# Altium schematic symbol library Antenna.SCHLIB: 130 symbols (part 2 of 4)
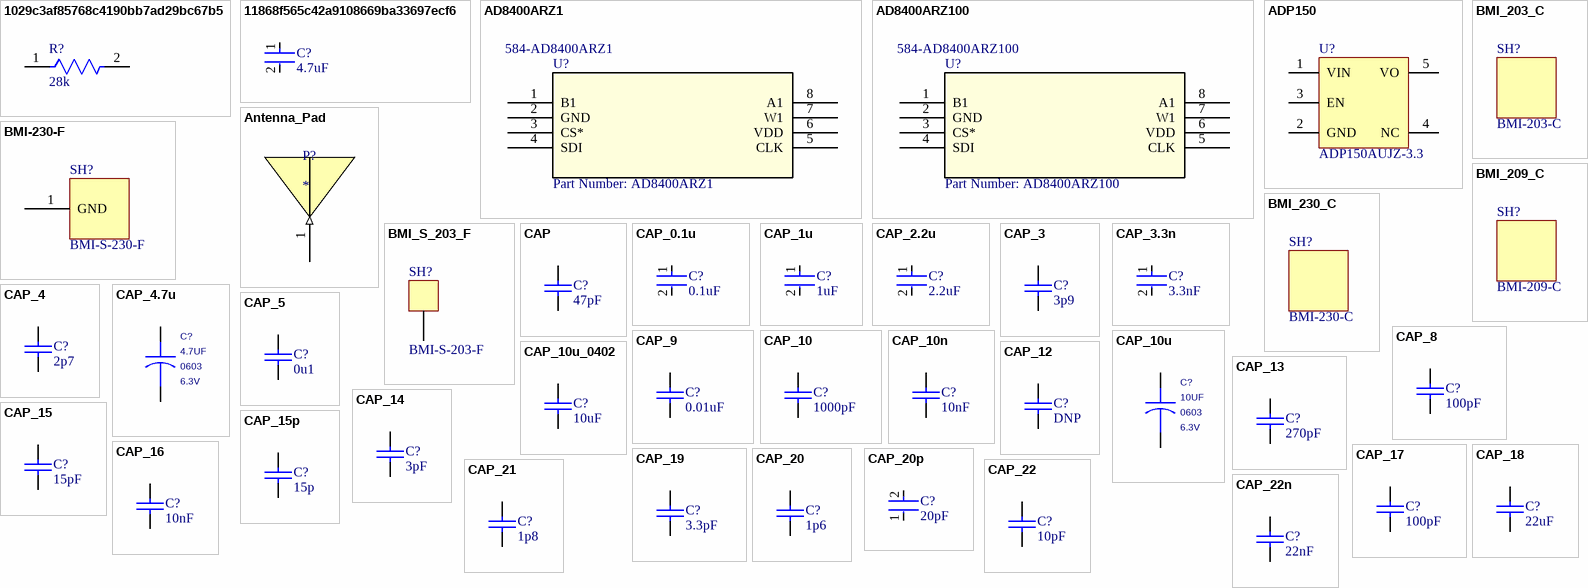
[diagram p4: symbols 1029c3af85768c4190bb7ad29bc67b5 to CAP_22n]

## CAP_20
designator C?, comment 1p6
Multilayer Ceramic Capacitors MLCC - SMD/SMT 0402 1.6pF 50Volts C0G +/-0.05pF; Manufacturer: Murata; Manufacturer Part Number: GJM1555C1H1R6WB01D; Voltage Rating: 50V; Supplier 1: Digi-Key; Supplier Part Number 1: 490-11200-1-ND; RoHS: Yes; Category: Ceramic Capacitors; Stock 1: 76276; Pricing 1: 1=0.30000, 10=0.20500, 100=0.11610, 500=0.08198, 1000=0.07173, 2500=0.06831, 5000=0.06319 (USD); Mount: Surface Mount; Case/Package: 0402; Case Code (Imperial): 0402; Case Code (Metric): 1005; Min Operating Temperature: -55°C; Max Operating Temperature: 125°C; Packaging: Tape and Reel; Capacitance: 1.6pF; Voltage Rating (DC): 50V; Package Quantity: 10000; Dielectric: C0G; Termination: SMD/SMT; Length: 1mm; Height: 0.5mm; Width: 0.5mm; Thickness: 0.022inch; Depth: 0.5mm; Radiation Hardening: No; ComponentLink1URL: http://components.arrow.com/part/dataview/0323_07284335?src-supplier=Arrow+Europe; ComponentLink1Description: http://components.arrow.com/part/dataview/0323_07284335?src-supplier=Arrow+Europe; ComponentLink2URL: http://www.mouser.com/ds/2/281/Murata%20GJM%20Series-1149669.pdf?src-supplier=Mouser; ComponentLink2Description: http://www.mouser.com/ds/2/281/Murata%20GJM%20Series-1149669.pdf?src-supplier=Mouser; ComponentLink3URL: http://components.arrow.com/part/dataview/46580659S481460N2606?src-supplier=Arrow; ComponentLink3Description: http://components.arrow.com/part/dataview/46580659S481460N2606?src-supplier=Arrow; ComponentLink4URL: http://search.murata.co.jp/Ceramy/image/img/A01X/G101/ENG/GJM1555C1H1R6WB01-01.pdf?src-supplier=Digi-Key; ComponentLink4Description: http://search.murata.co.jp/Ceramy/image/img/A01X/G101/ENG/GJM1555C1H1R6WB01-01.pdf?src-supplier=Digi-Key; ComponentLink5URL: http://search.murata.co.jp/Ceramy/image/img/PDF/ENG/GJM1555C1H1R6WB01.pdf?src-supplier=Avnet; ComponentLink5Description: http://search.murata.co.jp/Ceramy/image/img/PDF/ENG/GJM1555C1H1R6WB01.pdf?src-supplier=Avnet
footprint C0402
pins: 1, 2
2 alternate drawings of the same symbol

## CAP_20p
designator C?, comment 20pF
CAP CER 20PF 50V C0G/NP0 0402; Manufacturer Part Number: CBR04C200F5GAC; Manufacturer: KEMET; Temperature Coefficient: 30ppm/°C; Material: Ceramic; Tolerance: 0.01; Temperature Characteristic: C0G; Temperature Range Low: -55°C; Height: 0.55mm; Package: CBR04C; Ipc Land Pattern Name: CAPC10050X50; Capacitance: 20 pF; Value: 20 pF; Temperature: -55°C to +125°C; Octopart: https://octopart.com/cbr04c200f5gac-kemet-23843231; RoHS: TRUE; Device Class L1: Passive Components; Category: Cap; Temperature Range High: +125°C; ComponentLink2URL: https://content.kemet.com/datasheets/KEM_C1030_CBR_SMD.pdf; Device Class L3: Ceramic Capacitors; Lead Free: Yes; Device Class L2: Capacitors; Automotive: No; Digikey Description: CAP CER 20PF 50V C0G/NP0 0402; ComponentLink2Description: Datasheet; Voltage Rating: 50 V; Supplier 1: Digi-Key
footprint FP-CBR04C-MFG
footprint FP-CBR04C-IPC_C
footprint FP-CBR04C-IPC_B
footprint FP-CBR04C-IPC_A
footprint 0402_cap
pins: 1, 2

## CAP_21
designator C?, comment 1p8
CAP CER 1.8PF 50V C0G/NP0 0402; Manufacturer: Murata; Manufacturer Part Number: GJM1555C1H1R8CB01D; Dielectric: C0G; Supplier 1: Digi-Key; Supplier Part Number 1: 490-3089-1-ND; RoHS: Yes; Category: Ceramic Capacitors; Stock 1: 28321; Pricing 1: 1=0.12000, 10=0.08200, 100=0.03850, 500=0.02700, 1000=0.02236, 2500=0.02081, 5000=0.01904 (USD); Mount: Surface Mount; Case/Package: 0402; Case Code (Imperial): 0402; Case Code (Metric): 1005; Min Operating Temperature: -55°C; Max Operating Temperature: 125°C; Capacitance: 1.8pF; Package Quantity: 1; Packaging: Tape and Reel; Voltage Rating: 50V; Termination: SMD/SMT; Voltage: 50V; Voltage Rating (DC): 50V; Length: 1mm; Height: 0.5mm; Width: 0.02inch; Thickness: 0.022inch; Depth: 0.5mm; Radiation Hardening: No; Lead Free: Lead Free; ComponentLink1URL: https://datasheet.ciiva.com/133/product-133129.pdf?src-supplier=Digi-Key; ComponentLink1Description: https://datasheet.ciiva.com/133/product-133129.pdf?src-supplier=Digi-Key; ComponentLink2URL: https://datasheet.ciiva.com/133/partnumbering-e-01-133130.pdf?src-supplier=Digi-Key; ComponentLink2Description: https://datasheet.ciiva.com/133/partnumbering-e-01-133130.pdf?src-supplier=Digi-Key; ComponentLink3URL: https://datasheet.ciiva.com/133/partnumbering-e-01-133131.pdf?src-supplier=Digi-Key; ComponentLink3Description: https://datasheet.ciiva.com/133/partnumbering-e-01-133131.pdf?src-supplier=Digi-Key
footprint C0402
pins: 1, 2
2 alternate drawings of the same symbol

## CAP_22
designator C?, comment 10pF
Multilayer Ceramic Capacitors MLCC - SMD/SMT 0402 10pF 50volt C0G +/-2%; Manufacturer: Murata; Manufacturer Part Number: GJM1555C1H100GB01D; Tolerance: 2%; Voltage Rating: 50V; Supplier 1: Digi-Key; Supplier Part Number 1: 490-8077-1-ND; RoHS: Yes; Category: Ceramic Capacitors; Stock 1: 70062; Pricing 1: 1=0.30000, 10=0.20500, 100=0.10380, 500=0.07104, 1000=0.06285, 2500=0.06011, 5000=0.05465 (USD); Mount: Surface Mount; Case/Package: 0402; Case Code (Imperial): 0402; Case Code (Metric): 1005; Min Operating Temperature: -55°C; Max Operating Temperature: 125°C; Capacitance: 10pF; Dielectric: C0G; Package Quantity: 1; Packaging: Tape and Reel; Voltage Rating (DC): 50V; Termination: SMD/SMT; Length: 1mm; Height: 0.5mm; Width: 0.5mm; Thickness: 0.022inch; Depth: 0.5mm; Radiation Hardening: No; Lead Free: Lead Free; ComponentLink1URL: https://datasheet.ciiva.com/17453/product-17453462.pdf?src-supplier=Avnet+Europe; ComponentLink1Description: https://datasheet.ciiva.com/17453/product-17453462.pdf?src-supplier=Avnet+Europe; ComponentLink2URL: https://datasheet.ciiva.com/11607/product-11607355.pdf?src-supplier=Avnet; ComponentLink2Description: https://datasheet.ciiva.com/11607/product-11607355.pdf?src-supplier=Avnet
footprint C0402
footprint 0402_cap
pins: 1, 2
2 alternate drawings of the same symbol

## CAP_22n
designator C?, comment 22nF
Taiyo Yuden 0402 (1005M) 22nF Multilayer Ceramic Capacitor MLCC 16V dc ±10% SMD EMK105B7223KV-F; Dielectric: X7R; Supplier 1: Digi-Key; Supplier Part Number 1: 587-1224-1-ND; Manufacturer: Taiyo Yuden; Manufacturer Part Number: EMK105B7223KV-F; RoHS: Yes; Category: Ceramic Capacitors; Stock 1: 267137; Pricing 1: 1=0.10000, 10=0.02400, 100=0.01070, 500=0.00762, 1000=0.00599, 2500=0.00544, 5000=0.00501 (USD); Mount: Surface Mount; Case/Package: 0402; Number of Pins: 2; Case Code (Metric): 1005; Case Code (Imperial): 0402; Contact Plating: Tin; Min Operating Temperature: -55°C; Max Operating Temperature: 125°C; Termination: SMD/SMT; Capacitance: 22nF; Tolerance: 10%; Voltage Rating: 16V; Packaging: Tape and Reel; Package Quantity: 1; Voltage Rating (DC): 16V; Composition: Ceramic; Voltage: 16V; Length: 1mm; Height: 0.5mm; Thickness: 0.022inch; Depth: 0.5mm; Width: 0.02inch; Radiation Hardening: No; Halogen Free: Halogen Free; REACH SVHC: Unknown; ComponentLink1URL: https://datasheet.ciiva.com/130/emk105b7223kv-f-ss-130613.pdf?src-supplier=Digi-Key; ComponentLink1Description: https://datasheet.ciiva.com/130/emk105b7223kv-f-ss-130613.pdf?src-supplier=Digi-Key; ComponentLink2URL: https://datasheet.ciiva.com/11463/emk105b7223kv-f-ss-11463878.pdf?src-supplier=Avnet; ComponentLink2Description: https://datasheet.ciiva.com/11463/emk105b7223kv-f-ss-11463878.pdf?src-supplier=Avnet; ComponentLink3URL: https://datasheet.ciiva.com/15920/228emk105b7223kv-f-15920438.pdf?src-supplier=Onlinecomponents.com; ComponentLink3Description: https://datasheet.ciiva.com/15920/228emk105b7223kv-f-15920438.pdf?src-supplier=Onlinecomponents.com; ComponentLink4URL: https://datasheet.ciiva.com/30123/216emk105b7223kv-f-30123805.pdf?src-supplier=Onlinecomponents.com; ComponentLink4Description: https://datasheet.ciiva.com/30123/216emk105b7223kv-f-30123805.pdf?src-supplier=Onlinecomponents.com; ComponentLink5URL: https://datasheet.ciiva.com/5423/mlcc-all-e-541559-5423242.pdf?src-supplier=Mouser; ComponentLink5Description: https://datasheet.ciiva.com/5423/mlcc-all-e-541559-5423242.pdf?src-supplier=Mouser
footprint C0402
pins: 1, 2
2 alternate drawings of the same symbol

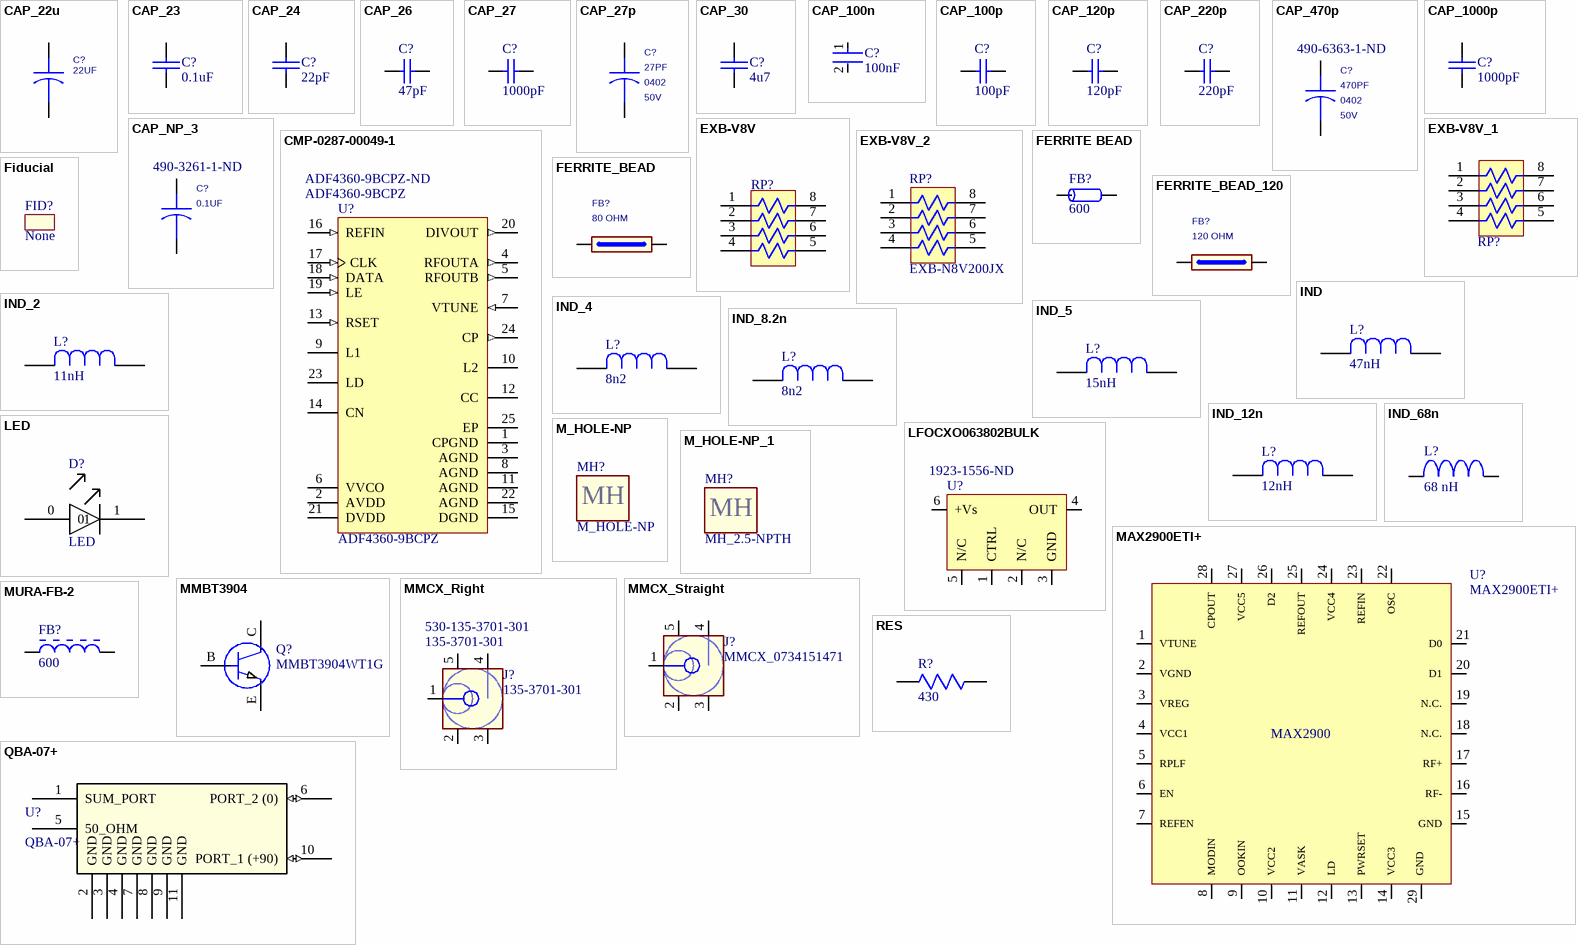
[diagram p1: symbols CAP_22u to RES]

## CAP_22u
designator C?, comment 22UF
MURATA         GRM21BR60J226ME39L            MLCC CAPACITOR, 22UF, 6.3V, X5R, 20%, 0805, FULL REEL; Material: Ceramic; ComponentLink1URL: https://datasheet.ciiva.com/18102/getdatasheetpartid-85307-18102905.pdf?src-supplier=Verical; ComponentLink1Description: https://datasheet.ciiva.com/18102/getdatasheetpartid-85307-18102905.pdf?src-supplier=Verical; ComponentLink2URL: https://datasheet.ciiva.com/129/grm155r71c104ka88-01-129739.pdf?src-supplier=Digi-Key; ComponentLink2Description: https://datasheet.ciiva.com/129/grm155r71c104ka88-01-129739.pdf?src-supplier=Digi-Key; ComponentLink3URL: https://datasheet.ciiva.com/129/grm155r71c104ka88-01-129740.pdf?src-supplier=Digi-Key; ComponentLink3Description: https://datasheet.ciiva.com/129/grm155r71c104ka88-01-129740.pdf?src-supplier=Digi-Key; ComponentLink4URL: https://datasheet.ciiva.com/29199/454098-da-01-en-vs-kondensator-0402-29199799.pdf?src-supplier=Conrad; ComponentLink4Description: https://datasheet.ciiva.com/29199/454098-da-01-en-vs-kondensator-0402-29199799.pdf?src-supplier=Conrad; ComponentLink5URL: https://datasheet.ciiva.com/28534/4360-28534133.pdf?src-supplier=Element14; ComponentLink5Description: https://datasheet.ciiva.com/28534/4360-28534133.pdf?src-supplier=Element14; ComponentLink6URL: https://datasheet.ciiva.com/14103/grmseries-highdielectrictype-eng-14103750.pdf?src-supplier=Distrelec; ComponentLink6Description: https://datasheet.ciiva.com/14103/grmseries-highdielectrictype-eng-14103750.pdf?src-supplier=Distrelec; ComponentLink7URL: https://datasheet.ciiva.com/16199/product-16199000.pdf?src-supplier=Future+Electronics; ComponentLink7Description: https://datasheet.ciiva.com/16199/product-16199000.pdf?src-supplier=Future+Electronics; ComponentLink8URL: https://datasheet.ciiva.com/14116/grmseries-highdielectrictype-eng-14116878.pdf?src-supplier=Distrelec; ComponentLink8Description: https://datasheet.ciiva.com/14116/grmseries-highdielectrictype-eng-14116878.pdf?src-supplier=Distrelec; ComponentLink9URL: https://datasheet.ciiva.com/7937/4360-7937615.pdf?src-supplier=Element14; ComponentLink9Description: https://datasheet.ciiva.com/7937/4360-7937615.pdf?src-supplier=Element14; ComponentLink10URL: https://datasheet.ciiva.com/28534/4360-28534127.pdf?src-supplier=Element14; ComponentLink10Description: https://datasheet.ciiva.com/28534/4360-28534127.pdf?src-supplier=Element14; ComponentLink11URL: https://datasheet.ciiva.com/16543/product-16543520.pdf?src-supplier=Avnet+Asia; ComponentLink11Description: https://datasheet.ciiva.com/16543/product-16543520.pdf?src-supplier=Avnet+Asia; ComponentLink12URL: https://datasheet.ciiva.com/28685/415298-28685393.pdf?src-supplier=Element14; ComponentLink12Description: https://datasheet.ciiva.com/28685/415298-28685393.pdf?src-supplier=Element14; ComponentLink13URL: https://datasheet.ciiva.com/3777/162grm21br60j226me3923-3777075.pdf?src-supplier=Arrow; ComponentLink13Description: https://datasheet.ciiva.com/3777/162grm21br60j226me3923-3777075.pdf?src-supplier=Arrow; ComponentLink14URL: https://datasheet.ciiva.com/34302/1858877-34302872.pdf?src-supplier=Jameco; ComponentLink14Description: https://datasheet.ciiva.com/34302/1858877-34302872.pdf?src-supplier=Jameco; ComponentLink15URL: https://datasheet.ciiva.com/29199/454561-da-01-en-vs-kondensator-0805-29199600.pdf?src-supplier=Conrad; ComponentLink15Description: https://datasheet.ciiva.com/29199/454561-da-01-en-vs-kondensator-0805-29199600.pdf?src-supplier=Conrad; ComponentLink16URL: https://datasheet.ciiva.com/29202/450907-da-01-de-vs-chip-kond-0805-22-0-uf-20pr-6-3v-x5r-29202711.pdf?src-supplier=Conrad; ComponentLink16Description: https://datasheet.ciiva.com/29202/450907-da-01-de-vs-chip-kond-0805-22-0-uf-20pr-6-3v-x5r-29202711.pdf?src-supplier=Conrad; ComponentLink17URL: https://datasheet.ciiva.com/137/partnumbering-e-01-137971.pdf?src-supplier=Digi-Key; ComponentLink17Description: https://datasheet.ciiva.com/137/partnumbering-e-01-137971.pdf?src-supplier=Digi-Key; ComponentLink18URL: https://datasheet.ciiva.com/137/partnumbering-e-01-137972.pdf?src-supplier=Digi-Key; ComponentLink18Description: https://datasheet.ciiva.com/137/partnumbering-e-01-137972.pdf?src-supplier=Digi-Key; ComponentLink19URL: https://datasheet.ciiva.com/137/partnumbering-e-01-137973.pdf?src-supplier=Digi-Key; ComponentLink19Description: https://datasheet.ciiva.com/137/partnumbering-e-01-137973.pdf?src-supplier=Digi-Key; ComponentLink20URL: https://datasheet.ciiva.com/2989/product-2989692.pdf?src-supplier=Avnet; ComponentLink20Description: https://datasheet.ciiva.com/2989/product-2989692.pdf?src-supplier=Avnet; ComponentLink21URL: https://datasheet.ciiva.com/7719/1747467-7719085.pdf?src-supplier=Element14; ComponentLink21Description: https://datasheet.ciiva.com/7719/1747467-7719085.pdf?src-supplier=Element14; ComponentLink22URL: https://datasheet.ciiva.com/7719/1747467-7719086.pdf?src-supplier=Element14; ComponentLink22Description: https://datasheet.ciiva.com/7719/1747467-7719086.pdf?src-supplier=Element14; ComponentLink23URL: https://datasheet.ciiva.com/14116/grmseries-highdielectrictype-eng-14116430.pdf?src-supplier=Distrelec; ComponentLink23Description: https://datasheet.ciiva.com/14116/grmseries-highdielectrictype-eng-14116430.pdf?src-supplier=Distrelec; Supplier 1: Digi-Key; Supplier Part Number 1: 490-1719-1-ND; Manufacturer: Murata; Manufacturer Part Number: GRM21BR60J226ME39L; RoHS: Yes; Category: Ceramic Capacitors; Stock 1: 10315049; Pricing 1: 1=0.50000, 10=0.34600, 100=0.20790, 500=0.15590, 1000=0.13165 (USD); Mount: Surface Mount; Case/Package: 0805; Case Code (Metric): 2012; Case Code (Imperial): 0805; Min Operating Temperature: -55°C; Max Operating Temperature: 85°C; Capacitance: 22uF; Tolerance: 20%; Dielectric: X5R; Packaging: Tape and Reel; Voltage Rating: 6.3V; Package Quantity: 1; Voltage Rating (DC): 6.3V; Termination: SMD/SMT; Voltage: 6.3V; Length: 2mm; Height: 1.25mm; Width: 0.049inch; Thickness: 0.053inch; Depth: 1.25mm; Radiation Hardening: No; REACH SVHC: No SVHC; Lead Free: Lead Free
footprint C0805
footprint C0402
footprint C0402
pins: 1, 2

## CAP_23
designator C?, comment 0.1uF
0402 0.1 uF 16 V ±10 % Tolerance X7R Surface Mount Multilayer Ceramic Capacitor; Manufacturer: Murata; Manufacturer Part Number: GCM155R71C104KA55D; Capacitance: 100nF; Tolerance: 10%; Voltage Rating: 16V; Supplier 1: Digi-Key; Supplier Part Number 1: 490-4759-1-ND; RoHS: Yes; Category: Ceramic Capacitors; Stock 1: 23673142; Pricing 1: 1=0.10000, 10=0.05900, 100=0.02630, 500=0.01878, 1000=0.01476, 2500=0.01341, 5000=0.01234 (USD); Mount: Surface Mount; Case/Package: 0402; Case Code (Metric): 1005; Case Code (Imperial): 0402; Min Operating Temperature: -55°C; Max Operating Temperature: 125°C; Dielectric: X7R; Package Quantity: 1; Packaging: Tape and Reel; Voltage Rating (DC): 16V; Termination: SMD/SMT; Voltage: 16V; Length: 1mm; Height: 0.5mm; Width: 0.02inch; Thickness: 0.022inch; Depth: 0.5mm; Ratings: AEC-Q200; Radiation Hardening: No; REACH SVHC: No SVHC; Lead Free: Lead Free; ComponentLink1URL: https://datasheet.ciiva.com/11786/0900766b80ef92d0-11786380.pdf?src-supplier=RSComponents; ComponentLink1Description: https://datasheet.ciiva.com/11786/0900766b80ef92d0-11786380.pdf?src-supplier=RSComponents; ComponentLink2URL: https://datasheet.ciiva.com/18183/getdatasheetpartid-220774-18183517.pdf?src-supplier=Verical; ComponentLink2Description: https://datasheet.ciiva.com/18183/getdatasheetpartid-220774-18183517.pdf?src-supplier=Verical; ComponentLink3URL: https://datasheet.ciiva.com/2989/product-2989234.pdf?src-supplier=Avnet; ComponentLink3Description: https://datasheet.ciiva.com/2989/product-2989234.pdf?src-supplier=Avnet; ComponentLink4URL: https://datasheet.ciiva.com/164/product-164315.pdf?src-supplier=Digi-Key; ComponentLink4Description: https://datasheet.ciiva.com/164/product-164315.pdf?src-supplier=Digi-Key; ComponentLink5URL: https://datasheet.ciiva.com/164/product-164316.pdf?src-supplier=Digi-Key; ComponentLink5Description: https://datasheet.ciiva.com/164/product-164316.pdf?src-supplier=Digi-Key; ComponentLink6URL: https://datasheet.ciiva.com/11463/product-11463804.pdf?src-supplier=Avnet; ComponentLink6Description: https://datasheet.ciiva.com/11463/product-11463804.pdf?src-supplier=Avnet
footprint C0402
pins: 1, 2
2 alternate drawings of the same symbol

## CAP_24
designator C?, comment 22pF
Cap Ceramic 22pF 50V C0G 2% SMD 0402 125°C Paper T/R; Manufacturer: Murata; Manufacturer Part Number: GJM1555C1H220GB01D; Supplier 1: Digi-Key; Supplier Part Number 1: 490-16381-1-ND; Category: Ceramic Capacitors; Stock 1: 35538; Pricing 1: 1=0.30000, 10=0.20500, 100=0.10380, 500=0.07104, 1000=0.06285, 2500=0.06011, 5000=0.05465 (USD); Capacitance: 22pF; Tolerance: 2%; Dielectric: C0G; Voltage Rating (DC): 50V; Length: 1mm; Thickness: 500um; Width: 500um; ComponentLink1URL: https://search.murata.co.jp/Ceramy/image/img/A01X/G101/ENG/GJM1555C1H220GB01-01.pdf?src-supplier=Digi-Key; ComponentLink1Description: https://search.murata.co.jp/Ceramy/image/img/A01X/G101/ENG/GJM1555C1H220GB01-01.pdf?src-supplier=Digi-Key; ComponentLink2URL: http://search.murata.co.jp/Ceramy/image/img/A01X/G101/ENG/GJM1555C1H220GB01-01.pdf?src-supplier=Digi-Key; ComponentLink2Description: http://search.murata.co.jp/Ceramy/image/img/A01X/G101/ENG/GJM1555C1H220GB01-01.pdf?src-supplier=Digi-Key; ComponentLink3URL: http://datasheet.octopart.com/GJM1555C1H220GB01D-Murata-datasheet-138724610.pdf?src-supplier=Ciiva+Crawler; ComponentLink3Description: http://datasheet.octopart.com/GJM1555C1H220GB01D-Murata-datasheet-138724610.pdf?src-supplier=Ciiva+Crawler; ComponentLink4URL: http://datasheet.octopart.com/GJM1555C1H220GB01D-Murata-datasheet-8819587.pdf; ComponentLink4Description: http://datasheet.octopart.com/GJM1555C1H220GB01D-Murata-datasheet-8819587.pdf; ComponentLink5URL: http://datasheet.octopart.com/GJM1555C1H220GB01D-Murata-datasheet-10025737.pdf; ComponentLink5Description: http://datasheet.octopart.com/GJM1555C1H220GB01D-Murata-datasheet-10025737.pdf; ComponentLink6URL: http://datasheet.octopart.com/GJM1555C1H220GB01D-Murata-datasheet-11978611.pdf; ComponentLink6Description: http://datasheet.octopart.com/GJM1555C1H220GB01D-Murata-datasheet-11978611.pdf; ComponentLink7URL: http://datasheet.octopart.com/GJM1555C1H220GB01D-Murata-datasheet-12510076.pdf; ComponentLink7Description: http://datasheet.octopart.com/GJM1555C1H220GB01D-Murata-datasheet-12510076.pdf; ComponentLink8URL: http://datasheet.octopart.com/GJM1555C1H220GB01D-Murata-datasheet-12515295.pdf; ComponentLink8Description: http://datasheet.octopart.com/GJM1555C1H220GB01D-Murata-datasheet-12515295.pdf
footprint C0402
pins: 1, 2
2 alternate drawings of the same symbol

## CAP_26
designator C?, comment 47pF
Manufacturer Part Number: GRM1555C1H470JA01D; Manufacturer: Murata; Supplier 1: Digi-Key; Supplier Part Number 1: 490-5942-1-ND
footprint CAPC1005X55X25LL05T10 (Chip Capacitor, 2-Leads, Body 1.00x0.50mm, IPC High Density)
footprint CAPC1005X55X25NL05T10 (Chip Capacitor, 2-Leads, Body 1.00x0.50mm, IPC Medium Density)
footprint CAPC1005X55X25ML05T10 (Chip Capacitor, 2-Leads, Body 1.00x0.50mm, IPC Low Density)
footprint 0402_cap
pins: 1, 2
1 alternate drawing of the same symbol

## CAP_27
designator C?, comment 1000pF
Part Number: GRM1555C1H102JA01D; Manufacturer: Murata; Supplier 1: Digi-Key; Supplier Part Number 1: 490-3244-6-ND
footprint CAPC1005X55X25LL05T10 (Chip Capacitor, 2-Leads, Body 1.00x0.50mm, IPC High Density)
footprint CAPC1005X55X25NL05T10 (Chip Capacitor, 2-Leads, Body 1.00x0.50mm, IPC Medium Density)
footprint CAPC1005X55X25ML05T10 (Chip Capacitor, 2-Leads, Body 1.00x0.50mm, IPC Low Density)
footprint Murata GRM1555C1H102JA01D (Footprint not found)
footprint 0402_cap
pins: 1, 2
1 alternate drawing of the same symbol

## CAP_27p
designator C?, comment 27PF  Attr: 50V  Package: 0402
Manufacturer Part Number: CL05C270JB5NNNC; Mfg: Samsung; Supplier 1: Digi-Key; Supplier Part Number 1: 1276-1153-1-ND
footprint C0402
footprint C0402
pins: 1, 2

## CAP_30
designator C?, comment 4u7
Cap Ceramic 4.7uF 10V X5R 10% Pad SMD 0603 85°C T/R; Manufacturer: Yageo; Manufacturer Part Number: CC0603KRX5R6BB475; Supplier 1: Future Electronics; Supplier Part Number 1: CC0603KRX5R6BB475-CUTT; RoHS: Yes; Category: Ceramic Capacitors; Stock 1: 2889148; Pricing 1: 1=0.21500, 50=0.10000, 100=0.08750, 500=0.06380, 1500=0.05150 (USD); Mount: Surface Mount; Case/Package: 0603; Case Code (Imperial): 0603; Case Code (Metric): 1608; Min Operating Temperature: -55°C; Max Operating Temperature: 85°C; Dielectric: X5R; Capacitance: 4.7uF; Tolerance: 10%; Voltage Rating: 10V; Voltage Rating (DC): 10V; Packaging: Tape and Reel; Package Quantity: 1; Termination: SMD/SMT; Composition: Ceramic; Length: 1.6mm; Height: 0.8mm; Width: 0.8mm; Thickness: 0.035inch; Depth: 0.8mm; Radiation Hardening: No; REACH SVHC: Unknown; Lead Free: Lead Free; Halogen Free: Halogen Free; ComponentLink1URL: https://datasheet.ciiva.com/179/mlccorderingcode-179704.pdf?src-supplier=Digi-Key; ComponentLink1Description: https://datasheet.ciiva.com/179/mlccorderingcode-179704.pdf?src-supplier=Digi-Key; ComponentLink2URL: https://datasheet.ciiva.com/179/mlccorderingcode-179706.pdf?src-supplier=Digi-Key; ComponentLink2Description: https://datasheet.ciiva.com/179/mlccorderingcode-179706.pdf?src-supplier=Digi-Key; ComponentLink3URL: https://datasheet.ciiva.com/11586/upy-gphc-x5r-4v-to-50v-12-11586314.pdf?src-supplier=Avnet; ComponentLink3Description: https://datasheet.ciiva.com/11586/upy-gphc-x5r-4v-to-50v-12-11586314.pdf?src-supplier=Avnet; ComponentLink4URL: https://datasheet.ciiva.com/8033/1525783-8033798.pdf?src-supplier=Element14; ComponentLink4Description: https://datasheet.ciiva.com/8033/1525783-8033798.pdf?src-supplier=Element14; ComponentLink5URL: https://datasheet.ciiva.com/179/mlccorderingcode-179705.pdf?src-supplier=Digi-Key; ComponentLink5Description: https://datasheet.ciiva.com/179/mlccorderingcode-179705.pdf?src-supplier=Digi-Key; ComponentLink6URL: https://datasheet.ciiva.com/8033/1525783-8033802.pdf?src-supplier=Element14; ComponentLink6Description: https://datasheet.ciiva.com/8033/1525783-8033802.pdf?src-supplier=Element14; ComponentLink7URL: https://datasheet.ciiva.com/16623/upy-gphc-x5r-4v-to-50v-12-16623983.pdf?src-supplier=Avnet+Europe; ComponentLink7Description: https://datasheet.ciiva.com/16623/upy-gphc-x5r-4v-to-50v-12-16623983.pdf?src-supplier=Avnet+Europe
footprint C0603
pins: 1, 2
2 alternate drawings of the same symbol

## CAP_100n
designator C?, comment 100nF
CAP CER 0.1UF 10V X5R 0402; Manufacturer: Kemet; Manufacturer Part Number: C0402C104K8PACTU; Material: Ceramic; Capacitance: 0.10 μF; Temperature Coefficient: 15%; Tolerance: 0.1; Value: 0.10 μF; Package: C0402-BB; Temperature: -55°C to +125°C; ComponentLink2Description: Datasheet; Temperature Characteristic: X5R; Device Class L1: Passive Components; Height: 0.55mm; Lead Free: Yes; ComponentLink2URL: https://content.kemet.com/datasheets/KEM_C1002_X7R_SMD.pdf; Device Class L2: Capacitors; Temperature Range Low: -55°C; Temperature Range High: +125°C; RoHS: TRUE; Octopart: https://octopart.com/c0402c104k8pactu-kemet-140039; Automotive: No; Mouser Description: Capacitor 100 nF 10 VDC 0402; Category: Cap; Voltage Rating: 10 V; Digikey Description: CAP CER 0.1UF 10V X5R 0402; Ipc Land Pattern Name: CAPC10050X50; Device Class L3: Ceramic Capacitors; Supplier 1: Digi-Key
footprint FP-C0402-BB-MFG
footprint FP-C0402-BB-IPC_C
footprint FP-C0402-BB-IPC_B
footprint FP-C0402-BB-IPC_A
footprint 0402_cap
pins: 1, 2

## CAP_100p
designator C?, comment 100pF
Manufacturer Part Number: C1005C0G1H101J050BA; Supplier 1: Digi-Key; Supplier Part Number 1: 445-1247-1-ND
footprint CAPC1005X55X25NL05T10 (Chip Capacitor, 2-Leads, Body 1.00x0.50mm, IPC Medium Density)
footprint CAPC1005X55X25ML05T10 (Chip Capacitor, 2-Leads, Body 1.00x0.50mm, IPC Low Density)
footprint CAPC1005X55X25LL05T10 (Chip Capacitor, 2-Leads, Body 1.00x0.50mm, IPC High Density)
footprint 0402_RES
footprint 0402_cap
pins: 1, 2
1 alternate drawing of the same symbol

## CAP_120p
designator C?, comment 120pF
Manufacturer Part Number: 04025A121JAT2A; Supplier 1: Digi-Key; Supplier Part Number 1: 478-1083-1-ND
footprint CAPC0603X33X15ML03T05 (Chip Capacitor, 2-Leads, Body 0.60x0.30mm, IPC Low Density)
footprint CAPC0603X33X15LL03T05 (Chip Capacitor, 2-Leads, Body 0.60x0.30mm, IPC High Density)
footprint CAPC0603X33X15NL03T05 (Chip Capacitor, 2-Leads, Body 0.60x0.30mm, IPC Medium Density)
footprint GRM033R71E821KA01D
footprint 0402_cap
pins: 1, 2
1 alternate drawing of the same symbol

## CAP_220p
designator C?, comment 220pF
Manufacturer Part Number: GCM1555C1H221JA16D; Supplier 1: Digi-Key; Supplier Part Number 1: 490-4927-1-ND
footprint CAPC1608X90X35NL10T15 (Chip Capacitor, 2-Leads, Body 1.60x0.80mm, IPC Medium Density)
footprint CAPC1608X90X35LL10T15 (Chip Capacitor, 2-Leads, Body 1.60x0.80mm, IPC High Density)
footprint CAPC1608X90X35ML10T15 (Chip Capacitor, 2-Leads, Body 1.60x0.80mm, IPC Low Density)
footprint GRM1885C1H202JA01D
footprint 0402_RES
pins: 1, 2
1 alternate drawing of the same symbol

## CAP_470p
designator C?, comment 470PF  Attr: 50V  Package: 0402  Supplier Part Number 1: 490-6363-1-ND
Manufacturer Part Number: GRM155R71H471JA01J; Mfg: Murata; Supplier 1: Digi-Key
footprint C0402
footprint C0402
pins: 1, 2

## CAP_1000p
designator C?, comment 1000pF
CAP CER 1000PF 50V NP0 0402; Manufacturer Part Number: UMK105CG102JVHF; ComponentLink1URL: http://www.mouser.com/ds/2/396/mlcc11_hq_e-541564.pdf?src-supplier=Mouser; ComponentLink1Description: http://www.mouser.com/ds/2/396/mlcc11_hq_e-541564.pdf?src-supplier=Mouser; ComponentLink2URL: http://www.yuden.co.jp/ut/product/category/capacitor/putpdf/UMK105CG102JVHF_SS.pdf?src-supplier=Avnet; ComponentLink2Description: http://www.yuden.co.jp/ut/product/category/capacitor/putpdf/UMK105CG102JVHF_SS.pdf?src-supplier=Avnet; ComponentLink3URL: http://ds.yuden.co.jp/TYCOMPAS/ut/detail.do?productNo=UMK105CG102JVHF&fileName=UMK105CG102JVHF_SS&mode=specSheetDownload&src-supplier=Digi-Key; ComponentLink3Description: http://ds.yuden.co.jp/TYCOMPAS/ut/detail.do?productNo=UMK105CG102JVHF&fileName=UMK105CG102JVHF_SS&mode=specSheetDownload&src-supplier=Digi-Key; Supplier 1: Digi-Key; Supplier Part Number 1: 587-3737-1-ND
footprint C0402
footprint 0402_CAP
pins: 1, 2
2 alternate drawings of the same symbol

## CAP_NP_3
designator C?, comment 0.1UF  Supplier Part Number 1: 490-3261-1-ND
CAP,CER,MONO,0.1UF,10%,16V,0402; Supplier 1: Digi-Key
footprint C0402
footprint C0402
pins: 1, 2

## CMP-0287-00049-1
designator U?, comment ADF4360-9BCPZ  Supplier Part Number 1: ADF4360-9BCPZ-ND
Clock Generator PLL with Integrated VCO, CP-24-2, Pb-Free, 490 Tray; Max REFin (MHz): 250MHz; Max RF Input (MHz): 400MHz; Frequency Range: 1.1-200 MHz; Supply Current: 30mA; Norm Phase Noise (dBc/Hz): -216dBc; Single/Dual: Single; PackageReference: CP-24-2; ComponentLink1Description: Manufacturer URL; ComponentLink1URL: www.analog.com; ComponentLink3URL: http://www.analog.com/static/imported-files/packages/588305704543880784658541CP_24_2.pdf; PackageVersion: Jan-2005; ComponentLink2Description: Datasheet; Code_JEDEC: MO-220-VGGD-2; ComponentLink2URL: http://www.analog.com/static/imported-files/data_sheets/ADF4360-9.pdf; ComponentLink3Description: Package Specification; PackageDescription: 24-Lead Lead Frame Chip Scale Package [LFCSP_VQ]; DatasheetVersion: Rev. B; Manufacturer Part Number: ADF4360-9BCPZ; Supplier 1: Digi-Key
footprint ADI-CP-24-2_L (QFN, 24-Leads, Body 4x4mm, Pitch 0.5mm, Thermal Pad 2.3x2.3mm, IPC High Density)
footprint ADI-CP-24-2_M (QFN, 24-Leads, Body 4x4mm, Pitch 0.5mm, Thermal Pad 2.3x2.3mm, IPC Low Density)
footprint ADI-CP-24-2_N (QFN, 24-Leads, Body 4x4mm, Pitch 0.5mm, Thermal Pad 2.3x2.3mm, IPC Medium Density)
footprint ADI-CP-24-2_N (QFN, 24-Leads, Body 4x4mm, Pitch 0.5mm, Thermal Pad 2.3x2.3mm, IPC Medium Density)
pins: 1 CPGND (power) "Charge Pump Ground. This is the ground return path for the charge pump.", 2 AVDD (power) "Analog Power Supply. This ranges from 3.0 V to 3.6 V. Decoupling capacitors to the analog ground plane should be placed as close as possible to this pin. [see datasheet]", 3 AGND (power) "Analog Ground. This is the ground return path of the prescaler and VCO.", 4 RFOUTA (out) "VCO Output. The output level is programmable from 0 dBm to -9 dBm. See the Output Matching section for a description of the various output stages.", 5 RFOUTB (out) "VCO Complementary Output. The output level is programmable from 0 dBm to -9 dBm. See the Output Matching section for a description of the various output stages.", 6 VVCO (power) "Power Supply for the VCO. This ranges from 3.0 V to 3.6 V. Decoupling capacitors to the analog ground plane should be placed as close as possible to this pin. [see datasheet]", 7 VTUNE (in) "Control Input to the VCO. This voltage determines the output frequency and is derived from filtering the CP output voltage.", 8 AGND (power) "Analog Ground. This is the ground return path of the prescaler and VCO.", 9 L1 "An external inductor to AGND should be connected to this pin to set the ADF4360-9 output frequency. L1 and L2 need to be the same value. A 470  ohm resistor should be added in parallel to AGND", 10 L2 "An external inductor to AGND should be connected to this pin to set the ADF4360-9 output frequency. L1 and L2 need to be the same value. A 470  ohm resistor should be added in parallel to AGND.", 11 AGND (power) "Analog Ground. This is the ground return path of the prescaler and VCO.", 12 CC "Internal Compensation Node. This pin must be decoupled to ground with a 10 nF capacitor.", 13 RSET (in) "Connecting a resistor between this pin and CPGND sets the maximum charge pump output current for the synthesizer. The nominal voltage potential at the RSET pin is 0.6 V. [see datasheet]", 14 CN "Internal Compensation Node. This pin must be decoupled to VVCO with a 10 uF capacitor.", 15 DGND (power) "Digital Ground.", 16 REFIN (in) "Reference Input. This is a CMOS input with a nominal threshold of VDD/2 and a dc equivalent input resistance of 100 k ohm (see Figure 16). [see datasheet]", 17 CLK (in) "Serial Clock Input. This serial clock is used to clock in the serial data to the registers. The data is latched into the 24-bit shift register on the CLK rising edge. [see datasheet]", 18 DATA (in) "Serial Data Input. The serial data is loaded MSB first with the two LSBs being the control bits. This input is a high impedance CMOS input.", 19 LE (in) "Load Enable, CMOS Input. When LE goes high, the data stored in the shift registers is loaded into one of the four latches, and the relevant latch is selected using the control bits.", 20 DIVOUT (out) "This output allows the user to select VCO frequency divided by A or VCO frequency divided by 2A. [see datasheet]", 21 DVDD (power) "Digital Power Supply. This ranges from 3.0 V to 3.6 V. Decoupling capacitors to the digital ground plane should be placed as close as possible to this pin. [see datasheet]", 22 AGND (power) "Analog Ground. This is the ground return path of the prescaler and VCO.", 23 LD "Lock Detect. The output on this pin is logic high to indicate that the part is in lock. Logic low indicates loss of lock.", 24 CP (out) "Charge Pump Output. When enabled, this provides +/-ICP to the external loop filter, which in turn drives the internal VCO.", 25 EP (power) "Exposed Pad. The exposed pad must be connected to AGND."

## EXB-V8V
designator RP?, comment EXB-N8V  (value not drawn)
RES ARRAY 4 RES 20 OHM 0804; Manufacturer Part Number: EXB-N8V200JX; Supplier 1: Digi-Key; Supplier Part Number 1: Y10200TR-ND
footprint EXB-N8V
pins: 1 R1A, 2 R2A, 3 R3A, 4 R4A, 5 R4B, 6 R3B, 7 R2B, 8 R1B
2 alternate drawings of the same symbol

## EXB-V8V_1
designator RP?, comment EXB-N8V  (value not drawn)
RES ARRAY 4 RES 20 OHM 0804; Supplier 1: Digi-Key; Supplier Part Number 1: Y10200TR-ND
footprint EXB-N8V
pins: 1 R1A, 2 R2A, 3 R3A, 4 R4A, 5 R4B, 6 R3B, 7 R2B, 8 R1B
2 alternate drawings of the same symbol

## EXB-V8V_2
designator RP?, comment value EXB-N8V200JX  (hidden comment: EXB-N8V)
Res Thick Film Array 20 Ohm 5% 200ppm/C ISOL Molded 8-Pin 0804(4 X 0402) Concave SMD Punched Carrier T/R; Manufacturer: Panasonic; Number of Contacts: 8; Voltage Rating (DC): 100V; Voltage Rating: 50V; Resistance: 20R; Circuit Type: Isolated; Number of Resistors: 4; Power Per Element: 31mW; Temperature Coefficient: 200ppm/°C; Supplier 1: Digi-Key; Supplier Part Number 1: Y10200TR-ND; Supplier 2: Digi-Key; Supplier Part Number 2: Y10200CT-ND; Manufacturer Part Number: EXB-N8V200JX; RoHS: Yes; Category: Resistor Arrays; Stock 2: 33992; Pricing 2: 1=0.11000, 10=0.09400, 25=0.06520, 50=0.05080, 100=0.03630, 250=0.02832, 500=0.02250, 1000=0.01597, 5000=0.01234 (USD); Mount: Surface Mount; Case/Package: 0804; Number of Pins: 8; Number of Terminals: 8; Min Operating Temperature: -55°C; Max Operating Temperature: 125°C; Packaging: Tape and Reel; Tolerance: 5%; Package Quantity: 1; Termination: SMD/SMT; Length: 0.079inch; Height: 0.022inch; Width: 1mm; Terminal Pitch: 0.5mm; Radiation Hardening: No; Lead Free: Contains Lead; ComponentLink1URL: http://www.onlinecomponents.com/datasheet/exb-n8v200jx.aspx?p=44463723&src-supplier=Onlinecomponents.com; ComponentLink1Description: http://www.onlinecomponents.com/datasheet/exb-n8v200jx.aspx?p=44463723&src-supplier=Onlinecomponents.com; ComponentLink2URL: http://www.mouser.com/ds/2/315/panasonic_EXB141824283438-586695.pdf?src-supplier=Mouser; ComponentLink2Description: http://www.mouser.com/ds/2/315/panasonic_EXB141824283438-586695.pdf?src-supplier=Mouser; ComponentLink3URL: https://industrial.panasonic.com/cdbs/www-data/pdf/AOC0000/AOC0000C14.pdf?src-supplier=Digi-Key; ComponentLink3Description: https://industrial.panasonic.com/cdbs/www-data/pdf/AOC0000/AOC0000C14.pdf?src-supplier=Digi-Key; ComponentLink4URL: http://industrial.panasonic.com/www-data/pdf/AOC0000/AOC0000CE1.pdf?src-supplier=Avnet; ComponentLink4Description: http://industrial.panasonic.com/www-data/pdf/AOC0000/AOC0000CE1.pdf?src-supplier=Avnet
footprint EXB-N8V
pins: 1 R1A, 2 R2A, 3 R3A, 4 R4A, 5 R4B, 6 R3B, 7 R2B, 8 R1B
2 alternate drawings of the same symbol

## FERRITE BEAD
designator FB?, comment 600
Ferrite Beads MULTILYR CHP BD 0402 600OHMS 25%; Manufacturer: Taiyo Yuden; Manufacturer Part Number: BK1005HS601-T; DC Resistance (DCR): 550mR; Max DC Current: 300mA; Test Frequency: 100MHz; Impedance: 600R; Number of Lines: 1; Shielding: Unshielded; Supplier 1: Digi-Key; Supplier Part Number 1: 587-1846-1-ND; RoHS: Yes; Category: Ferrite Beads and Chips; Stock 1: 239225; Pricing 1: 1=0.10000, 10=0.04100, 25=0.03640, 50=0.03300, 100=0.02970, 250=0.02180, 500=0.01584, 1000=0.01551, 5000=0.01056 (USD); Mount: Surface Mount; Case/Package: 0402; Number of Pins: 2; Case Code (Metric): 1005; Case Code (Imperial): 0402; Core Material: Ferrite; Min Operating Temperature: -55°C; Max Operating Temperature: 125°C; Packaging: Tape and Reel; Termination: SMD/SMT; Package Quantity: 1; Tolerance: 25%; Max Current Rating: 300mA; Frequency: 100MHz; Length: 0.039inch; Height: 0.55mm; Width: 0.02inch; Depth: 0.55mm; Halogen Free: Halogen Free; Lead Free: Lead Free; REACH SVHC: Unknown; ComponentLink1URL: https://datasheet.ciiva.com/6213/bk1005hs601-t-ss-6213314.pdf?src-supplier=Digi-Key; ComponentLink1Description: https://datasheet.ciiva.com/6213/bk1005hs601-t-ss-6213314.pdf?src-supplier=Digi-Key; ComponentLink2URL: https://datasheet.ciiva.com/30218/13bk1005hs601-t-30218484.pdf?src-supplier=Onlinecomponents.com; ComponentLink2Description: https://datasheet.ciiva.com/30218/13bk1005hs601-t-30218484.pdf?src-supplier=Onlinecomponents.com; ComponentLink3URL: https://datasheet.ciiva.com/16001/48bk1005hs601-t-16001560.pdf?src-supplier=Onlinecomponents.com; ComponentLink3Description: https://datasheet.ciiva.com/16001/48bk1005hs601-t-16001560.pdf?src-supplier=Onlinecomponents.com; ComponentLink4URL: https://datasheet.ciiva.com/6213/mlci07-e-6213317.pdf?src-supplier=Digi-Key; ComponentLink4Description: https://datasheet.ciiva.com/6213/mlci07-e-6213317.pdf?src-supplier=Digi-Key; ComponentLink5URL: https://datasheet.ciiva.com/6213/mlci07-e-6213311.pdf?src-supplier=Digi-Key; ComponentLink5Description: https://datasheet.ciiva.com/6213/mlci07-e-6213311.pdf?src-supplier=Digi-Key
footprint L0402
pins: 1, 2

## FERRITE_BEAD
designator FB?, comment 80 OHM
Ind High Current Chip Bead 80Ohm 25% 100MHz Ferrite 3A 0603 T/R; MfgPN: MH1608-800Y; Mfg: Bourns; Impedance: 80R; DC Resistance (DCR): 40mR; Number of Lines: 1; Package: 0603; Supplier 1: Digi-Key; Supplier Part Number 1: MH1608-800YCT-ND; Manufacturer: Bourns; Manufacturer Part Number: MH1608-800Y; RoHS: Yes; Category: Inductors; Stock 1: 34736; Pricing 1: 1=0.10000, 10=0.07300, 25=0.06600, 50=0.05940, 100=0.04360, 250=0.03168, 500=0.02904, 1000=0.02508 (USD); Mount: Surface Mount; Case/Package: 0603; Core Material: Ferrite; Case Code (Metric): 3216; Case Code (Imperial): 1608; Min Operating Temperature: -55°C; Max Operating Temperature: 125°C; Tolerance: 25%; Max DC Current: 3A; Packaging: Tape and Reel; Package Quantity: 1; Max Current Rating: 3A; Termination: SMD/SMT; Test Frequency: 100MHz; Length: 0.063inch; Height: 0.039inch; Width: 0.047inch; Depth: 1mm; ComponentLink1URL: https://datasheet.ciiva.com/4940/mh-69602-4940837.pdf?src-supplier=Mouser; ComponentLink1Description: https://datasheet.ciiva.com/4940/mh-69602-4940837.pdf?src-supplier=Mouser; ComponentLink2URL: https://datasheet.ciiva.com/6212/mh-6212171.pdf?src-supplier=Digi-Key; ComponentLink2Description: https://datasheet.ciiva.com/6212/mh-6212171.pdf?src-supplier=Digi-Key; ComponentLink3URL: https://datasheet.ciiva.com/8516/mh-8516200.pdf?src-supplier=Avnet; ComponentLink3Description: https://datasheet.ciiva.com/8516/mh-8516200.pdf?src-supplier=Avnet; ComponentLink4URL: https://datasheet.ciiva.com/17286/mh-17286670.pdf?src-supplier=Avnet+Europe; ComponentLink4Description: https://datasheet.ciiva.com/17286/mh-17286670.pdf?src-supplier=Avnet+Europe
footprint C0603
pins: 1, 2

## FERRITE_BEAD_120
designator FB?, comment 120 OHM
Manufacturer Part Number: BKP1005HS121-T; ComponentLink1URL: https://datasheet.ciiva.com/4940/mh-69602-4940837.pdf?src-supplier=Mouser; ComponentLink1Description: https://datasheet.ciiva.com/4940/mh-69602-4940837.pdf?src-supplier=Mouser; ComponentLink2URL: https://datasheet.ciiva.com/6212/mh-6212171.pdf?src-supplier=Digi-Key; ComponentLink2Description: https://datasheet.ciiva.com/6212/mh-6212171.pdf?src-supplier=Digi-Key; ComponentLink3URL: https://datasheet.ciiva.com/8516/mh-8516200.pdf?src-supplier=Avnet; ComponentLink3Description: https://datasheet.ciiva.com/8516/mh-8516200.pdf?src-supplier=Avnet; ComponentLink4URL: https://datasheet.ciiva.com/17286/mh-17286670.pdf?src-supplier=Avnet+Europe; ComponentLink4Description: https://datasheet.ciiva.com/17286/mh-17286670.pdf?src-supplier=Avnet+Europe; Supplier 1: Digi-Key; Supplier Part Number 1: 587-1921-1-ND
footprint C0603
footprint 0402_RES
pins: 1, 2

## Fiducial
designator FID?  ARAM Number: None  (hidden comment: Fiducial)  (no BOM)
Stuff: NO STUFF; LatestRevisionDate: 30-November-2006; LatestRevisionNote: Created by DWS; Value: Fiducial
footprint FIDUCIAL

## IND
designator L?, comment 47nH
FIXED IND 47NH 230MA 1 OHM SMD; Manufacturer: Taiyo Yuden; Manufacturer Part Number: HK100547NJ-T; Core Material: Ferrite,Ceramic; Body Material: Ceramic; Shielding: Unshielded; DC Resistance (DCR): 1R; Tolerance: 5%; Self Resonant Frequency: 1GHz; Q Factor: 8; Max DC Current: 200mA; Test Frequency: 100MHz; Supplier 1: Digi-Key; Supplier Part Number 1: 587-1527-1-ND; RoHS: Yes; Category: Fixed Inductors; Stock 1: 46126; Pricing 1: 1=0.10000, 10=0.02900, 100=0.01960, 500=0.01582, 1000=0.01351, 2500=0.01208 (USD); Mount: Surface Mount; Case/Package: 0402; Number of Pins: 2; Weight: 2.3E-05oz; Case Code (Imperial): 0402; Case Code (Metric): 1005; Min Operating Temperature: -55°C; Max Operating Temperature: 125°C; Packaging: Tape and Reel; Inductance: 47nH; Termination: SMD/SMT; Package Quantity: 10000; Current Rating: 230mA; Inductance Tolerance: 5%; Length: 0.039inch; Height: 0.5mm; Width: 0.5mm; Height - Seated (Max): 0.022inch; Lead Free: Exempt; Halogen Free: Halogen Free; REACH SVHC: Unknown; ComponentLink1URL: https://datasheet.ciiva.com/8001/hk100547nj-t-ss-8001958.pdf?src-supplier=Element14; ComponentLink1Description: https://datasheet.ciiva.com/8001/hk100547nj-t-ss-8001958.pdf?src-supplier=Element14; ComponentLink2URL: https://datasheet.ciiva.com/15986/301hk100547nj-t-15986329.pdf?src-supplier=Onlinecomponents.com; ComponentLink2Description: https://datasheet.ciiva.com/15986/301hk100547nj-t-15986329.pdf?src-supplier=Onlinecomponents.com; ComponentLink3URL: https://datasheet.ciiva.com/30181/880hk100547nj-t-30181094.pdf?src-supplier=Onlinecomponents.com; ComponentLink3Description: https://datasheet.ciiva.com/30181/880hk100547nj-t-30181094.pdf?src-supplier=Onlinecomponents.com; ComponentLink4URL: https://datasheet.ciiva.com/8498/hk100547nj-t-ss-8498923.pdf?src-supplier=Avnet; ComponentLink4Description: https://datasheet.ciiva.com/8498/hk100547nj-t-ss-8498923.pdf?src-supplier=Avnet
footprint M9898-ND
footprint L0402
pins: 1, 2
2 alternate drawings of the same symbol

## IND_2
designator L?, comment 11nH
Fixed Inductors 11nH 5% 100MHz; Manufacturer: Murata; Manufacturer Part Number: LQW15AN11NJ00D; Core Material: Air,Ferrite; Shielding: Unshielded; Q Factor: 30; Current Rating: 500mA; Current: 280mA; DC Resistance (DCR): 140mR; Self Resonant Frequency: 5.5GHz; Supplier 1: Digi-Key; Supplier Part Number 1: 490-6766-1-ND; RoHS: Yes; Category: Fixed Inductors; Stock 1: 8847; Pricing 1: 1=0.17000, 10=0.15500, 100=0.10350, 500=0.08626, 1000=0.07245, 2500=0.06210 (USD); Mount: Surface Mount; Case/Package: 0402; Case Code (Metric): 1005; Case Code (Imperial): 0402; Min Operating Temperature: -55°C; Max Operating Temperature: 125°C; Package Quantity: 1; Tolerance: 5%; Packaging: Tape and Reel; Inductance: 11nH; Max DC Current: 500mA; Termination: SMD/SMT; Test Frequency: 100MHz; DC Current: 500mA; Military Standard: Not; Inductance Tolerance: 5%; Length: 1mm; Height: 0.5mm; Width: 0.5mm; Depth: 0.7mm; Radiation Hardening: No; REACH SVHC: No SVHC; Lead Free: Lead Free; ComponentLink1URL: https://datasheet.ciiva.com/30490/0900766b8125623e-30490346.pdf?src-supplier=RSComponents; ComponentLink1Description: https://datasheet.ciiva.com/30490/0900766b8125623e-30490346.pdf?src-supplier=RSComponents; ComponentLink2URL: https://datasheet.ciiva.com/8507/l0075s0080lqw15a-00-8507478.pdf?src-supplier=Avnet; ComponentLink2Description: https://datasheet.ciiva.com/8507/l0075s0080lqw15a-00-8507478.pdf?src-supplier=Avnet; ComponentLink3URL: https://datasheet.ciiva.com/4978/product-4978346.pdf?src-supplier=Mouser; ComponentLink3Description: https://datasheet.ciiva.com/4978/product-4978346.pdf?src-supplier=Mouser; ComponentLink4URL: https://datasheet.ciiva.com/6710/l0075s0080lqw15a-00-6710013.pdf?src-supplier=Digi-Key; ComponentLink4Description: https://datasheet.ciiva.com/6710/l0075s0080lqw15a-00-6710013.pdf?src-supplier=Digi-Key; ComponentLink5URL: https://datasheet.ciiva.com/6710/l0075s0080lqw15a-00-6710015.pdf?src-supplier=Digi-Key; ComponentLink5Description: https://datasheet.ciiva.com/6710/l0075s0080lqw15a-00-6710015.pdf?src-supplier=Digi-Key
footprint M9898-ND
footprint L0402
pins: 1, 2
2 alternate drawings of the same symbol

## IND_4
designator L?, comment 8n2
FIXED IND 8.2NH 540MA 140 MOHM; Manufacturer: Murata; Manufacturer Part Number: LQW15AN8N2J00D; Core Material: Air,Ferrite; Tolerance: 5%; DC Resistance (DCR): 140mR; Shielding: Unshielded; Q Factor: 25; Self Resonant Frequency: 5.5GHz; Test Frequency: 100MHz; Supplier 1: Digi-Key; Supplier Part Number 1: 490-1144-1-ND; RoHS: Yes; Category: Fixed Inductors; Stock 1: 29890; Pricing 1: 1=0.17000, 10=0.15500, 100=0.10350, 500=0.08626, 1000=0.07245, 2500=0.06210 (USD); Mount: Surface Mount; Case/Package: 0402; Weight: 2.8E-05oz; Case Code (Metric): 1005; Case Code (Imperial): 0402; Min Operating Temperature: -55°C; Max Operating Temperature: 125°C; Inductance: 8.2nH; Max DC Current: 540mA; Package Quantity: 1; Current Rating: 540mA; Packaging: Tape and Reel; Termination: SMD/SMT; DC Current: 540mA; Military Standard: Not; Length: 1mm; Height: 0.5mm; Depth: 0.7mm; Width: 0.02inch; Radiation Hardening: No; Lead Free: Lead Free; ComponentLink1URL: https://datasheet.ciiva.com/11799/0900766b8090d800-11799046.pdf?src-supplier=RSComponents; ComponentLink1Description: https://datasheet.ciiva.com/11799/0900766b8090d800-11799046.pdf?src-supplier=RSComponents; ComponentLink2URL: https://datasheet.ciiva.com/1042/l0075s0080lqw15a-00-1042176.pdf?src-supplier=Digi-Key; ComponentLink2Description: https://datasheet.ciiva.com/1042/l0075s0080lqw15a-00-1042176.pdf?src-supplier=Digi-Key; ComponentLink3URL: https://datasheet.ciiva.com/17278/l0075s0080lqw15a-00-17278345.pdf?src-supplier=Avnet+Europe; ComponentLink3Description: https://datasheet.ciiva.com/17278/l0075s0080lqw15a-00-17278345.pdf?src-supplier=Avnet+Europe; ComponentLink4URL: https://datasheet.ciiva.com/8506/l0075s0080lqw15a-00-8506028.pdf?src-supplier=Avnet; ComponentLink4Description: https://datasheet.ciiva.com/8506/l0075s0080lqw15a-00-8506028.pdf?src-supplier=Avnet; ComponentLink5URL: https://datasheet.ciiva.com/1042/l0075s0080lqw15a-00-1042174.pdf?src-supplier=Digi-Key; ComponentLink5Description: https://datasheet.ciiva.com/1042/l0075s0080lqw15a-00-1042174.pdf?src-supplier=Digi-Key; ComponentLink6URL: https://datasheet.ciiva.com/1042/l0075s0080lqw15a-00-1042175.pdf?src-supplier=Digi-Key; ComponentLink6Description: https://datasheet.ciiva.com/1042/l0075s0080lqw15a-00-1042175.pdf?src-supplier=Digi-Key
footprint M9898-ND
footprint L0402
pins: 1, 2
2 alternate drawings of the same symbol

## IND_5
designator L?, comment 15nH
Fixed Inductors 0402 15nH; Manufacturer: Murata; Manufacturer Part Number: LQW15AN15NJ00D; Core Material: Air,Ferrite; Tolerance: 5%; DC Resistance (DCR): 160mR; Max DC Current: 460mA; Q Factor: 30; Shielding: Unshielded; Self Resonant Frequency: 5GHz; Test Frequency: 100MHz; Supplier 1: Digi-Key; Supplier Part Number 1: 490-1148-1-ND; RoHS: Yes; Category: Fixed Inductors; Stock 1: 114095; Pricing 1: 1=0.17000, 10=0.15500, 100=0.10350, 500=0.08626, 1000=0.07245, 2500=0.06210 (USD); Mount: Surface Mount; Case/Package: 0402; Weight: 2.8E-05oz; Case Code (Metric): 1005; Case Code (Imperial): 0402; Min Operating Temperature: -55°C; Max Operating Temperature: 125°C; Inductance: 15nH; Packaging: Tape and Reel; Package Quantity: 10000; Current Rating: 460mA; Termination: SMD/SMT; Composition: Wirewound; DC Current: 460mA; Military Standard: Not; Length: 1mm; Height: 0.5mm; Depth: 0.7mm; Width: 0.02inch; Radiation Hardening: No; Lead Free: Lead Free; ComponentLink1URL: https://datasheet.ciiva.com/11799/0900766b8090d800-11799050.pdf?src-supplier=RSComponents; ComponentLink1Description: https://datasheet.ciiva.com/11799/0900766b8090d800-11799050.pdf?src-supplier=RSComponents; ComponentLink2URL: https://datasheet.ciiva.com/8510/l0075s0080lqw15a-00-8510407.pdf?src-supplier=Avnet; ComponentLink2Description: https://datasheet.ciiva.com/8510/l0075s0080lqw15a-00-8510407.pdf?src-supplier=Avnet; ComponentLink3URL: https://datasheet.ciiva.com/6699/l0075s0080lqw15a-00-6699672.pdf?src-supplier=Digi-Key; ComponentLink3Description: https://datasheet.ciiva.com/6699/l0075s0080lqw15a-00-6699672.pdf?src-supplier=Digi-Key; ComponentLink4URL: https://datasheet.ciiva.com/16369/l0075s0080lqw15a-00-16369672.pdf?src-supplier=Future+Electronics; ComponentLink4Description: https://datasheet.ciiva.com/16369/l0075s0080lqw15a-00-16369672.pdf?src-supplier=Future+Electronics; ComponentLink5URL: https://datasheet.ciiva.com/6699/l0075s0080lqw15a-00-6699673.pdf?src-supplier=Digi-Key; ComponentLink5Description: https://datasheet.ciiva.com/6699/l0075s0080lqw15a-00-6699673.pdf?src-supplier=Digi-Key; ComponentLink6URL: https://datasheet.ciiva.com/6699/l0075s0080lqw15a-00-6699674.pdf?src-supplier=Digi-Key; ComponentLink6Description: https://datasheet.ciiva.com/6699/l0075s0080lqw15a-00-6699674.pdf?src-supplier=Digi-Key; ComponentLink7URL: https://datasheet.ciiva.com/18089/getdatasheetpartid-118098-18089356.pdf?src-supplier=Verical; ComponentLink7Description: https://datasheet.ciiva.com/18089/getdatasheetpartid-118098-18089356.pdf?src-supplier=Verical; ComponentLink8URL: https://datasheet.ciiva.com/4977/product-4977869.pdf?src-supplier=Mouser; ComponentLink8Description: https://datasheet.ciiva.com/4977/product-4977869.pdf?src-supplier=Mouser
footprint M9898-ND
footprint L0402
pins: 1, 2
2 alternate drawings of the same symbol